# Altium integrated library LPDDR4.IntLib: 1 symbol
Pins are listed as number, name and electrical type; pins without a type are passive.

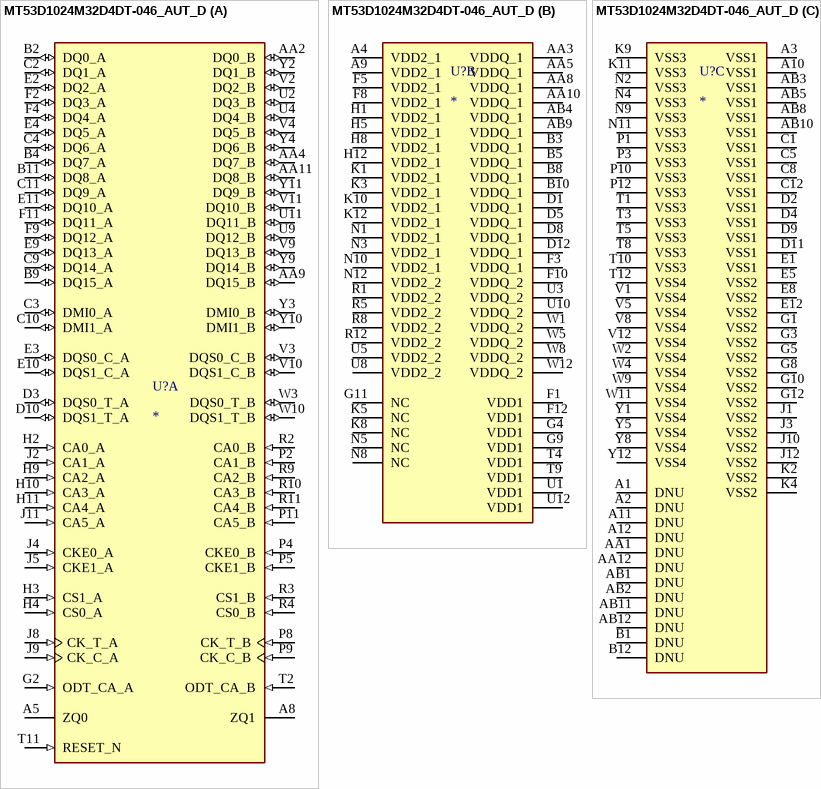
[diagram p0: symbol MT53D1024M32D4DT-046_AUT_D]

## MT53D1024M32D4DT-046_AUT_D
designator U?
MP: MT53D1024M32D4DT-046_AUT_D; Package: None; Value: *; Availability: Unavailable; Price: None
footprint IC_MT53D1024M32D4DT-046_AUT_D
part A pins: A5 ZQ0, A8 ZQ1, AA2 DQ0_B (io), AA4 DQ7_B (io), AA9 DQ15_B (io), AA11 DQ8_B (io), B2 DQ0_A (io), B4 DQ7_A (io), B9 DQ15_A (io), B11 DQ8_A (io), C2 DQ1_A (io), C3 DMI0_A (io), C4 DQ6_A (io), C9 DQ14_A (io), C10 DMI1_A (io), C11 DQ9_A (io), D3 DQS0_T_A (io), D10 DQS1_T_A (io), E2 DQ2_A (io), E3 DQS0_C_A (io), E4 DQ5_A (io), E9 DQ13_A (io), E10 DQS1_C_A (io), E11 DQ10_A (io), F2 DQ3_A (io), F4 DQ4_A (io), F9 DQ12_A (io), F11 DQ11_A (io), G2 ODT_CA_A (in), H2 CA0_A (in), H3 CS1_A (in), H4 CS0_A (in), H9 CA2_A (in), H10 CA3_A (in), H11 CA4_A (in), J2 CA1_A (in), J4 CKE0_A (in), J5 CKE1_A (in), J8 CK_T_A (in), J9 CK_C_A (in), J11 CA5_A (in), P2 CA1_B (in), P4 CKE0_B (in), P5 CKE1_B (in), P8 CK_T_B (in), P9 CK_C_B (in), P11 CA5_B (in), R2 CA0_B (in), R3 CS1_B (in), R4 CS0_B (in), R9 CA2_B (in), R10 CA3_B (in), R11 CA4_B (in), T2 ODT_CA_B (in), T11 RESET_N (in), U2 DQ3_B (io), U4 DQ4_B (io), U9 DQ12_B (io), U11 DQ11_B (io), V2 DQ2_B (io), V3 DQS0_C_B (io), V4 DQ5_B (io), V9 DQ13_B (io), V10 DQS1_C_B (io), V11 DQ10_B (io), W3 DQS0_T_B (io), W10 DQS1_T_B (io), Y2 DQ1_B (io), Y3 DMI0_B (io), Y4 DQ6_B (io), Y9 DQ14_B (io), Y10 DMI1_B (io), Y11 DQ9_B (io)
part B pins: A4 VDD2_1 (power), A9 VDD2_1 (power), AA3 VDDQ_1 (power), AA5 VDDQ_1 (power), AA8 VDDQ_1 (power), AA10 VDDQ_1 (power), AB4 VDDQ_1 (power), AB9 VDDQ_1 (power), B3 VDDQ_1 (power), B5 VDDQ_1 (power), B8 VDDQ_1 (power), B10 VDDQ_1 (power), D1 VDDQ_1 (power), D5 VDDQ_1 (power), D8 VDDQ_1 (power), D12 VDDQ_1 (power), F1 VDD1 (power), F3 VDDQ_1 (power), F5 VDD2_1 (power), F8 VDD2_1 (power), F10 VDDQ_2 (power), F12 VDD1 (power), G4 VDD1 (power), G9 VDD1 (power), G11 NC, H1 VDD2_1 (power), H5 VDD2_1 (power), H8 VDD2_1 (power), H12 VDD2_1 (power), K1 VDD2_1 (power), K3 VDD2_1 (power), K5 NC, K8 NC, K10 VDD2_1 (power), K12 VDD2_1 (power), N1 VDD2_1 (power), N3 VDD2_1 (power), N5 NC, N8 NC, N10 VDD2_1 (power), N12 VDD2_2 (power), R1 VDD2_2 (power), R5 VDD2_2 (power), R8 VDD2_2 (power), R12 VDD2_2 (power), T4 VDD1 (power), T9 VDD1 (power), U1 VDD1 (power), U3 VDDQ_2 (power), U5 VDD2_2 (power), U8 VDD2_2 (power), U10 VDDQ_2 (power), U12 VDD1 (power), W1 VDDQ_2 (power), W5 VDDQ_2 (power), W8 VDDQ_2 (power), W12 VDDQ_2 (power)
part C pins: A1 DNU, A2 DNU, A3 VSS1 (power), A10 VSS1 (power), A11 DNU, A12 DNU, AA1 DNU, AA12 DNU, AB1 DNU, AB2 DNU, AB3 VSS1 (power), AB5 VSS1 (power), AB8 VSS1 (power), AB10 VSS1 (power), AB11 DNU, AB12 DNU, B1 DNU, B12 DNU, C1 VSS1 (power), C5 VSS1 (power), C8 VSS1 (power), C12 VSS1 (power), D2 VSS1 (power), D4 VSS1 (power), D9 VSS1 (power), D11 VSS1 (power), E1 VSS1 (power), E5 VSS2 (power), E8 VSS2 (power), E12 VSS2 (power), G1 VSS2 (power), G3 VSS2 (power), G5 VSS2 (power), G8 VSS2 (power), G10 VSS2 (power), G12 VSS2 (power), J1 VSS2 (power), J3 VSS2 (power), J10 VSS2 (power), J12 VSS2 (power), K2 VSS2 (power), K4 VSS2 (power), K9 VSS3 (power), K11 VSS3 (power), N2 VSS3 (power), N4 VSS3 (power), N9 VSS3 (power), N11 VSS3 (power), P1 VSS3 (power), P3 VSS3 (power), P10 VSS3 (power), P12 VSS3 (power), T1 VSS3 (power), T3 VSS3 (power), T5 VSS3 (power), T8 VSS3 (power), T10 VSS3 (power), T12 VSS4 (power), V1 VSS4 (power), V5 VSS4 (power), V8 VSS4 (power), V12 VSS4 (power), W2 VSS4 (power), W4 VSS4 (power), W9 VSS4 (power), W11 VSS4 (power), Y1 VSS4 (power), Y5 VSS4 (power), Y8 VSS4 (power), Y12 VSS4 (power)